# EAGLE library part 74HC193 (library 74HC193)
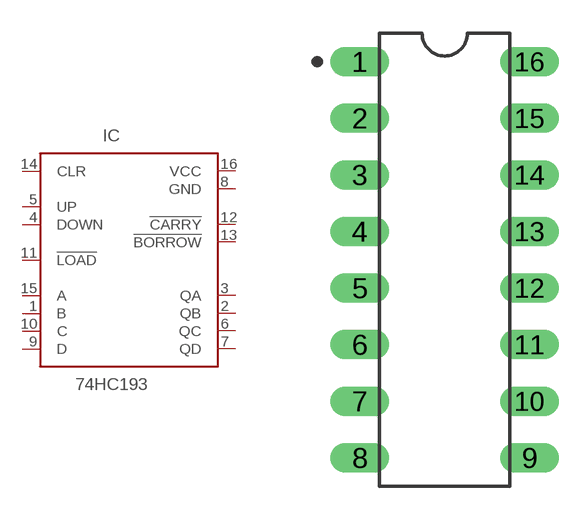
[diagram p0: symbol with the pads of DIL16; footprint DIL16]

Designator prefix IC

## 74HC193TC74HC193AP(DIP)  [DIL16]
1  B  in
2  QB  out
3  QA  out
4  DOWN  in
5  UP  in
6  QC  out
7  QD  out
8  GND  pwr
9  D  in
10  C  in
11  !LOAD  in
12  !CARRY  out
13  !BORROW  out
14  CLR  in
15  A  in
16  VCC  pwr

## Footprint DIL16 (pad centres in mm)
Dual In Line Package
drill 0.813 long: 1 -3.81,8.89; 2 -3.81,6.35; 3 -3.81,3.81; 4 -3.81,1.27; 5 -3.81,-1.27; 6 -3.81,-3.81; 7 -3.81,-6.35; 8 -3.81,-8.89; 9 3.81,-8.89; 10 3.81,-6.35; 11 3.81,-3.81; 12 3.81,-1.27; 13 3.81,1.27; 14 3.81,3.81; 15 3.81,6.35; 16 3.81,8.89